# Altium footprint library SR PCB Library V01.PcbLib: 402 footprints (part 8 of 26)
Each footprint in its own frame and in the unit in brackets; x right, y up, seen from the top. Pads: shape width x height; smd on the part's side, far side on the other; paste and mask are expansions set on the pad; w line width, h text height; cw(c..) or ccw(c..) is an arc to the next point about the centre after c.
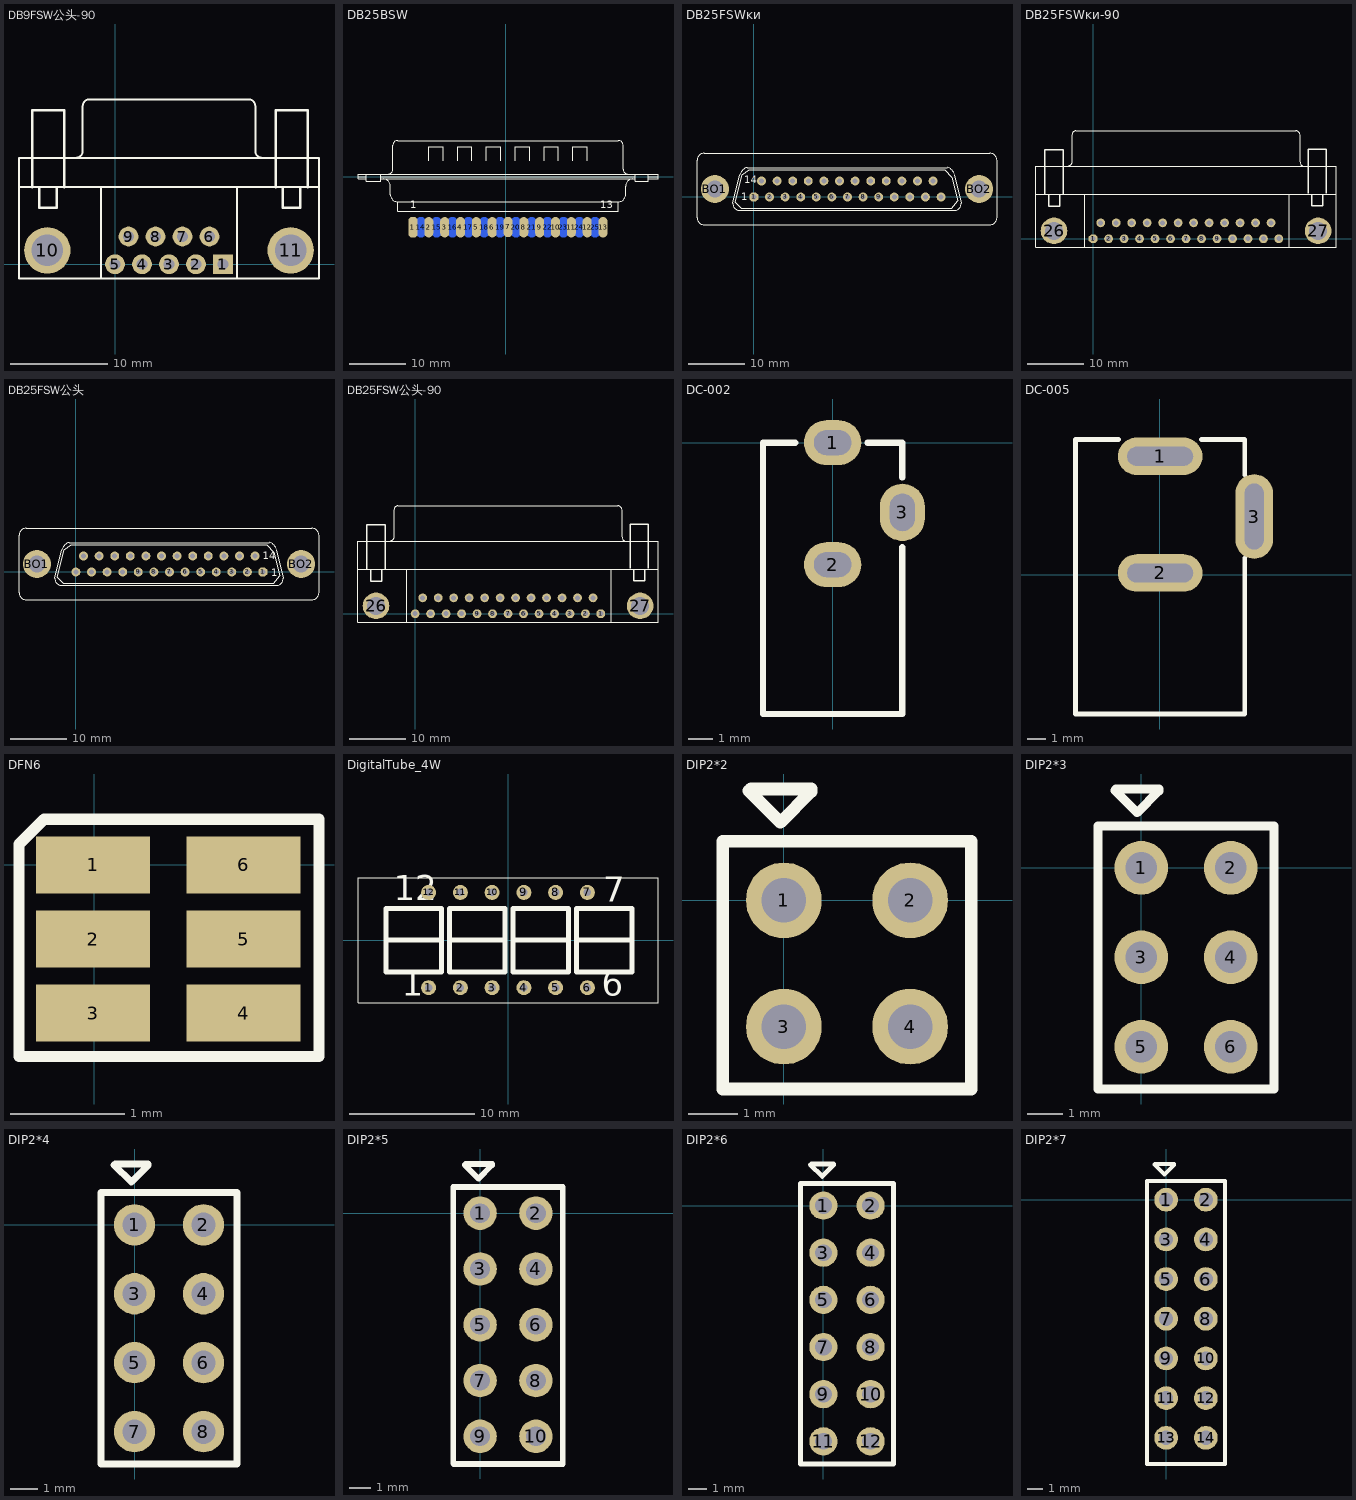
[diagram p7: the footprints below, top view; thin cyan lines are the x and y axes]

## DB9FSW公头-90 [mm]
pads (11):
  rect 2.032x2.032 hole 1.09: 1(11.08,0)
  round 2.032 hole 1.09: 2(8.31,0) 3(5.54,0) 4(2.77,0) 5(0,0) 6(9.695,2.84) 7(6.925,2.84) 8(4.155,2.84) 9(1.385,2.84)
  round 4.76 hole 3.26: 10(-6.955,1.42) 11(18.035,1.42)
Top Overlay:
  lines w0.2: -9.86,7.92 20.94,7.92 ; -4.02,10.925 ccw(c-4.02,11.62) -3.325,11.62 -3.325,16.22 ; -3.32,16.225 cw(c-2.625,16.225) -2.625,16.92 13.705,16.92 cw(c13.705,16.225) 14.4,16.225 ; -1.46,-1.48 -1.46,7.92 ; 12.54,-1.48 12.54,7.92 ; 14.405,16.22 14.405,11.62 ccw(c15.1,11.62) 15.1,10.925 ; -9.86,-1.48 20.94,-1.48 20.94,10.92 -9.86,10.92 -9.86,-1.48
  lines w0.254: -8.5,7.9 -8.5,15.8 -5.2,15.8 -5.2,7.92 ; -7.8,7.92 -7.8,5.8 -6,5.8 -6,7.92 ; 16.5,7.9 16.5,15.8 19.8,15.8 19.8,7.92 ; 17.2,7.92 17.2,5.8 19,5.8 19,7.92

## DB25BSW [mil]
pads (25):
  oct 62.5x141.67 smd: 1(-646,-350)
  oval 62.5x141.67 smd: 2(-536,-350) 3(-426,-350) 4(-316,-350) 5(-206,-350) 6(-96,-350) 7(14,-348.33) 8(124,-350) 9(234,-350) 10(344,-350) 11(454,-350) 12(564,-350) 13(674,-350)
  oval 62.5x141.67 smd far side: 14(-591,-350) 15(-481,-350) 16(-371,-350) 17(-261,-350) 18(-151,-350) 19(-41,-350) 20(69,-350) 21(179,-350) 22(289,-350) 23(399,-350) 24(509,-350) 25(619,-350)
Top Overlay:
  lines w8: -1027.67,1.67 -969.33,1.67 ; -969.33,-15 -1027.67,-15 -1027.67,18.33 1055.67,18.33 1055.67,-15 989,-15 ; -969.33,18.33 -969.33,-31.67 -869.33,-31.67 -869.33,18.33 ; -869.33,-15 897.33,-15 ; -869.33,1.67 897.33,1.67 ; -852.67,-15 cw(c-852.67,-65) -802.67,-65 -802.67,-123.33 ccw(c-752.67,-123.33) -752.67,-173.33 ; -819.33,18.33 ccw(c-819.33,51.67) -786,51.67 -786,218.33 cw(c-752.67,218.33) -752.67,251.67 780.67,251.67 cw(c780.67,218.33) 814,218.33 814,51.67 ccw(c847.33,51.67) 847.33,18.33 ; -536,110 -536,210 -436,210 -436,110 ; -336,110 -336,210 -236,210 -236,110 ; -136,110 -136,210 -36,210 -36,110 ; 64,110 64,210 164,210 164,110 ; 264,110 264,210 364,210 364,110 ; 464,110 464,210 564,210 564,110 ; 880.67,-15 ccw(c880.67,-65) 830.67,-65 830.67,-123.33 cw(c780.67,-123.33) 780.67,-173.33 ; 897.33,18.33 897.33,-31.67 989,-31.67 989,18.33 ; 989,1.67 1055.67,1.67 ; -752.67,-173.33 780.67,-173.33 ; -752.67,-173.33 -752.67,-240 780.67,-240 780.67,-173.33
  text "13" at 654,-220 h50
  text "1" at -666,-220 h50

## DB25FSWĸͷ [mil]
pads (27):
  oct 62x62 hole 35: 1(0,0)
  round 62 hole 35: 2(109.17,0) 3(218.33,0) 4(327.5,0) 5(436.67,0) 6(545.83,0) 7(655,0) 8(764.17,0) 9(873.33,0) 10(982.5,0) 11(1091.67,0) 12(1200.83,0) 13(1310,0) 14(53.33,111.67) 15(162.5,111.67) 16(271.67,111.67) 17(380.83,111.67) 18(490,111.67) 19(599.17,111.67) 20(708.33,111.67) 21(817.5,111.67) 22(926.67,111.67) 23(1035.83,111.67) 24(1145,111.67) 25(1254.17,111.67)
  round 196.67 hole 118.33: BO1(-273.33,55.83) BO2(1576.67,55.83)
Top Overlay:
  lines w8: -98.33,-94.17 1401.67,-94.17 ccw(c1401.67,-44.17) 1451.67,-44.17 1401.67,155.83 ; -98.33,155.83 -148.33,-44.17 ccw(c-98.33,-44.17) -90.51,-93.55 ; -97.97,155.7 cw(c-31.67,139.17) -48.2,205.47 ; -48.33,205.83 1351.67,205.83 ; 1354.52,207.26 cw(c1335,139.17) 1401.13,164.55 ; -398.33,-144.17 ccw(c-348.33,-144.17) -348.33,-194.17 1651.67,-194.17 ccw(c1651.67,-144.17) 1701.67,-144.17 1701.67,255.83 ccw(c1651.67,255.83) 1651.67,305.83 -348.33,305.83 ccw(c-348.33,255.83) -398.33,255.83 -398.33,-144.17 ; -131.67,-35.83 -90,-77.5 1385,-77.5 1426.67,-27.5 1385,139.17 1335,189.17 -31.67,189.17 -81.67,155.83 -131.67,-35.83
  text "1" at -88.33,-24.17 h50
  text "14" at -68.33,95.83 h50

## DB25FSWĸͷ-90 [mil]
pads (27):
  oct 62x62 hole 35: 1(0,0)
  round 62 hole 35: 2(109.17,0) 3(218.33,0) 4(327.5,0) 5(436.67,0) 6(545.83,0) 7(655,0) 8(764.17,0) 9(873.33,0) 10(982.5,0) 11(1091.67,0) 12(1200.83,0) 13(1308.66,0) 14(53.33,111.67) 15(162.5,111.67) 16(271.67,111.67) 17(380.83,111.67) 18(490,111.67) 19(599.17,111.67) 20(708.33,111.67) 21(817.5,111.67) 22(926.67,111.67) 23(1035.83,111.67) 24(1145,111.67) 25(1254.17,111.67)
  round 187.4 hole 128.35: 26(-275.59,55.12) 27(1585.59,55.12)
Top Overlay:
  lines w7.87: -402.6,314.96 1711.57,314.96 ; -174.06,515.95 ccw(c-174.06,543.31) -146.69,543.31 ; -146.78,736.14 cw(c-123.07,736.14) -123.07,759.84 ; -146.69,547.24 -146.69,732.37 ; -119.13,759.84 1428.89,759.84 cw(c1428.89,729.44) 1459.3,729.44 ; -60.08,-55.12 -60.08,314.96 ; 1380.87,-55.12 1380.87,314.96 ; 1458.77,539.37 ccw(c1487.16,539.37) 1487.16,510.98 ; 1459.61,543.38 1459.61,724.41 ; -402.6,-59.06 -402.6,511.81 1711.97,511.81 1711.97,-59.06 -402.6,-59.06
  lines w10: -339.61,314.96 -339.61,625.98 -209.69,625.98 -209.69,315.75 ; -312.05,311.02 -312.05,227.56 -234.1,227.56 -234.1,311.02 ; 1514.72,318.9 1514.72,629.92 1644.65,629.92 1644.64,319.69 ; 1542.28,314.96 1542.28,231.49 1620.23,231.49 1620.23,314.96

## DB25FSW公头 [mil]
pads (27):
  oct 62x62 hole 35: 1(1308.66,0)
  round 62 hole 35: 2(1200.83,0) 3(1091.67,0) 4(982.5,0) 5(873.33,0) 6(764.17,0) 7(655,0) 8(545.83,0) 9(436.67,0) 10(327.5,0) 11(218.33,0) 12(109.17,0) 13(0,0) 14(1254.17,111.67) 15(1145,111.67) 16(1035.83,111.67) 17(926.67,111.67) 18(817.5,111.67) 19(708.33,111.67) 20(599.17,111.67) 21(490,111.67) 22(380.83,111.67) 23(271.67,111.67) 24(162.5,111.67) 25(53.33,111.67)
  round 196.67 hole 118.33: BO1(-273.33,55.83) BO2(1576.67,55.83)
Top Overlay:
  lines w8: -98.33,-94.17 1401.67,-94.17 ccw(c1401.67,-44.17) 1451.67,-44.17 1401.67,155.83 ; -98.33,155.83 -148.33,-44.17 ccw(c-98.33,-44.17) -90.51,-93.55 ; -97.97,155.7 cw(c-31.67,139.17) -48.2,205.47 ; -48.33,205.83 1351.67,205.83 ; 1354.52,207.26 cw(c1335,139.17) 1401.13,164.55 ; -398.33,-144.17 ccw(c-348.33,-144.17) -348.33,-194.17 1651.67,-194.17 ccw(c1651.67,-144.17) 1701.67,-144.17 1701.67,255.83 ccw(c1651.67,255.83) 1651.67,305.83 -348.33,305.83 ccw(c-348.33,255.83) -398.33,255.83 -398.33,-144.17 ; -131.67,-35.83 -90,-77.5 1385,-77.5 1426.67,-27.5 1385,139.17 1335,189.17 -31.67,189.17 -81.67,155.83 -131.67,-35.83
  text "1" at 1366.14,-31.5 h50
  text "14" at 1307.09,90.55 h50

## DB25FSW公头-90 [mil]
pads (27):
  oct 62x62 hole 35: 1(1308.66,0)
  round 62 hole 35: 2(1200.83,0) 3(1091.67,0) 4(982.5,0) 5(873.33,0) 6(764.17,0) 7(655,0) 8(545.83,0) 9(436.67,0) 10(327.5,0) 11(218.33,0) 12(109.17,0) 13(0,0) 14(1254.17,111.67) 15(1145,111.67) 16(1035.83,111.67) 17(926.67,111.67) 18(817.5,111.67) 19(708.33,111.67) 20(599.17,111.67) 21(490,111.67) 22(380.83,111.67) 23(271.67,111.67) 24(162.5,111.67) 25(53.33,111.67)
  round 187.4 hole 128.35: 26(-275.59,55.12) 27(1585.59,55.12)
Top Overlay:
  lines w7.87: -402.6,314.96 1711.57,314.96 ; -174.06,515.95 ccw(c-174.06,543.31) -146.69,543.31 ; -146.78,736.14 cw(c-123.07,736.14) -123.07,759.84 ; -146.69,547.24 -146.69,732.37 ; -119.13,759.84 1428.89,759.84 cw(c1428.89,729.44) 1459.3,729.44 ; -60.08,-55.12 -60.08,314.96 ; 1380.87,-55.12 1380.87,314.96 ; 1458.77,539.37 ccw(c1487.16,539.37) 1487.16,510.98 ; 1459.61,543.38 1459.61,724.41 ; -402.6,-59.06 1711.97,-59.06 1711.97,511.81 -402.6,511.81 -402.6,-59.06
  lines w10: -339.61,314.96 -339.61,625.98 -209.69,625.98 -209.69,315.75 ; -312.05,311.02 -312.05,227.56 -234.1,227.56 -234.1,311.02 ; 1514.72,318.9 1514.72,629.92 1644.65,629.92 1644.64,319.69 ; 1542.28,314.96 1542.28,231.49 1620.23,231.49 1620.23,314.96

## DC-002 [mm]
pads (3):
  oval 2.3x1.8 hole 1 slot 1.5 at 0 deg: 1(0,0) 2(0,-4.9)
  oval 1.8x2.3 hole 1 slot 1.5 at 90 deg: 3(2.8,-2.8)
Top Overlay:
  lines w0.254: -1.5,0 -2.8,0 -2.8,-10.9 2.8,-10.9 2.8,-4.2 ; 1.4,0 2.8,0 2.8,-1.4

## DC-005 [mm]
pads (3):
  oval 4.5x2 hole 1 slot 3.5 at 0 deg: 1(0.025,6.299) 2(0.025,0.099)
  oval 2x4.5 hole 1 slot 3.5 at 90 deg: 3(5.025,3.099)
Top Overlay:
  lines w0.254: -2.175,7.199 -4.475,7.199 -4.475,-7.401 4.525,-7.401 4.525,0.899 ; 2.225,7.199 4.525,7.199 4.525,5.299
Keep-Out Layer:
  lines w0.15: -1.475,6.559 -1.475,6.699 ; -1.475,6.699 1.645,6.699 1.645,5.859 -1.475,5.859 -1.475,6.699 ; -1.595,-0.361 -1.595,0.579 1.685,0.579 1.685,-0.361 -1.595,-0.361 ; 4.545,1.479 5.525,1.479 5.525,4.649 4.545,4.649 4.545,1.479

## DFN6 [mm]
pads (6):
  rect 1x0.5 smd: 1(-0.01,0) 2(-0.01,-0.65) 3(-0.01,-1.3) 4(1.31,-1.3) 5(1.31,-0.65) 6(1.31,0)
Top Overlay:
  lines w0.1: -0.66,-1.68 1.97,-1.68 1.97,0.4 -0.44,0.4 -0.66,0.18 -0.66,-1.68

## DigitalTube_4W [mm] "0.25英寸，4位时钟数码管"
height 9.6
pads (12):
  round 1.2 hole 0.6: 1(-6.35,-3.81) 2(-3.81,-3.81) 3(-1.27,-3.81) 4(1.27,-3.81) 5(3.81,-3.81) 6(6.35,-3.81) 7(6.35,3.81) 8(3.81,3.81) 9(1.27,3.81) 10(-1.27,3.81) 11(-3.81,3.81) 12(-6.35,3.81)
Top Overlay:
  lines w0.1: -12,-5 -12,5 0,5 12,5 12,0 12,-5 0,-5 -12,-5
  lines w0.4: -9.779,0 -5.334,0 ; -4.699,0 -0.254,0 ; 0.381,0 4.826,0 ; 5.461,0 9.906,0 ; -9.779,-2.54 -5.334,-2.54 -5.334,2.54 -9.779,2.54 -9.779,-2.54 ; -4.699,-2.54 -4.699,2.54 -0.254,2.54 -0.254,-2.54 -4.699,-2.54 ; 0.381,-2.54 0.381,2.54 4.826,2.54 4.826,-2.54 0.381,-2.54 ; 5.461,-2.54 5.461,2.54 9.906,2.54 9.906,-2.54 5.461,-2.54
  text "6" at 7.493,-4.445 h2
  text "1" at -8.509,-4.445 h2
  text "12" at -9.144,3.175 h2
  text "7" at 7.62,3.048 h2

## DIP2*2 [mil]
pads (4):
  round 60 hole 35.43: 1(0,0) 2(100,0) 3(0,-100) 4(100,-100)
Top Overlay:
  lines w10: -48.43,-149.36 148.43,-149.36 148.43,46.85 -48.43,46.85 -48.43,-149.36 ; -27.56,86.61 -2.72,61.77 21.65,86.14 21.65,88.13 -26.04,88.13 -27.56,86.61

## DIP2*3 [mil]
pads (6):
  round 60 hole 35.43: 1(0,0) 2(100,0) 3(0,-100) 4(100,-100) 5(0,-200) 6(100,-200)
Top Overlay:
  lines w10: -48.43,-247.24 -48.43,46.85 148.43,46.85 148.43,-247.24 -48.43,-247.24 ; -29.53,86.61 -4.68,61.77 19.69,86.14 19.69,88.13 -28.01,88.13 -29.53,86.61

## DIP2*4 [mil]
height 19.68
pads (8):
  round 60 hole 35.43: 1(0,0) 2(100,0) 3(0,-100) 4(100,-100) 5(0,-200) 6(100,-200) 7(0,-300) 8(100,-300)
Top Overlay:
  lines w10: -48.43,-346.85 -48.43,46.85 148.43,46.85 148.43,-346.85 -48.43,-346.85 ; -29.53,86.61 -28.01,88.13 19.69,88.13 19.69,86.14 -4.68,61.77 -29.53,86.61

## DIP2*5 [mil]
pads (10):
  round 60 hole 35.43: 1(0,0) 2(100,0) 3(0,-100) 4(100,-100) 5(0,-200) 6(100,-200) 7(0,-300) 8(100,-300) 9(0,-400) 10(100,-400)
Top Overlay:
  lines w10: -48.43,-448.42 -48.43,46.85 148.43,46.85 148.43,-449.61 -47.24,-449.61 -48.43,-448.42 ; -27.56,86.61 -26.04,88.13 21.65,88.13 21.65,86.14 -2.72,61.77 -27.56,86.61

## DIP2*6 [mil]
pads (12):
  round 60 hole 35.43: 1(0,0) 2(100,0) 3(0,-100) 4(100,-100) 5(0,-200) 6(100,-200) 7(0,-300) 8(100,-300) 9(0,-400) 10(100,-400) 11(0,-500) 12(100,-500)
Top Overlay:
  lines w10: -48.43,-548.03 148.43,-548.03 148.43,46.85 -48.43,46.85 -48.43,-548.03 ; -27.56,86.61 -26.04,88.13 21.65,88.13 21.65,86.14 -2.72,61.77 -27.56,86.61

## DIP2*7 [mil]
pads (14):
  round 60 hole 35.43: 1(0,0) 2(100,0) 3(0,-100) 4(100,-100) 5(0,-200) 6(100,-200) 7(0,-300) 8(100,-300) 9(0,-400) 10(100,-400) 11(0,-500) 12(100,-500) 13(0,-600) 14(100,-600)
Top Overlay:
  lines w10: -48.43,-666.14 148.43,-666.14 148.43,46.85 -48.43,46.85 -48.43,-666.14 ; -29.53,88.58 -28.01,90.1 19.69,90.1 19.69,88.11 -4.68,63.74 -29.53,88.58